# Altium integrated library ISO7721FBDWR.IntLib: 1 symbol
Pins are listed as number, name and electrical type; pins without a type are passive.

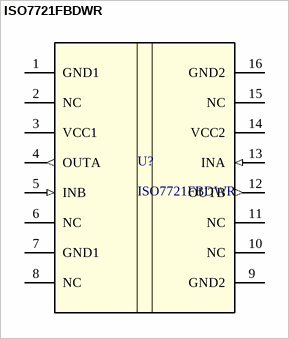
[diagram p0: symbol ISO7721FBDWR]

## ISO7721FBDWR
designator U?
Digital Isolador; Mfr_Name: Texas Instruments; Type: DEV; RefDes: RefDes; Copyright: Copyright (C) 2022 Ultra Librarian. All rights reserved.; Manufacturer_Part_Number: ISO7721FBDWR; Digi-Key_Part_Number_1: 296-ISO7721FBDWRTR-ND; Digi-Key_Part_Number_2: 296-ISO7721FBDWRCT-ND; Digi-Key_Part_Number_3: 296-ISO7721FBDWRDKR-ND
footprint DW0016B_N
pins: 1 GND1 (power), 2 NC, 3 VCC1 (power), 4 OUTA (out), 5 INB (in), 6 NC, 7 GND1 (power), 8 NC, 9 GND2 (power), 10 NC, 11 NC, 12 OUTB (out), 13 INA (in), 14 VCC2 (power), 15 NC, 16 GND2 (power)